# Altium footprint library fszhang.PcbLib: 298 footprints (part 2 of 19)
Each footprint in its own frame and in the unit in brackets; x right, y up, seen from the top. Pads: shape width x height; smd on the part's side, far side on the other; paste and mask are expansions set on the pad; w line width, h text height; cw(c..) or ccw(c..) is an arc to the next point about the centre after c.
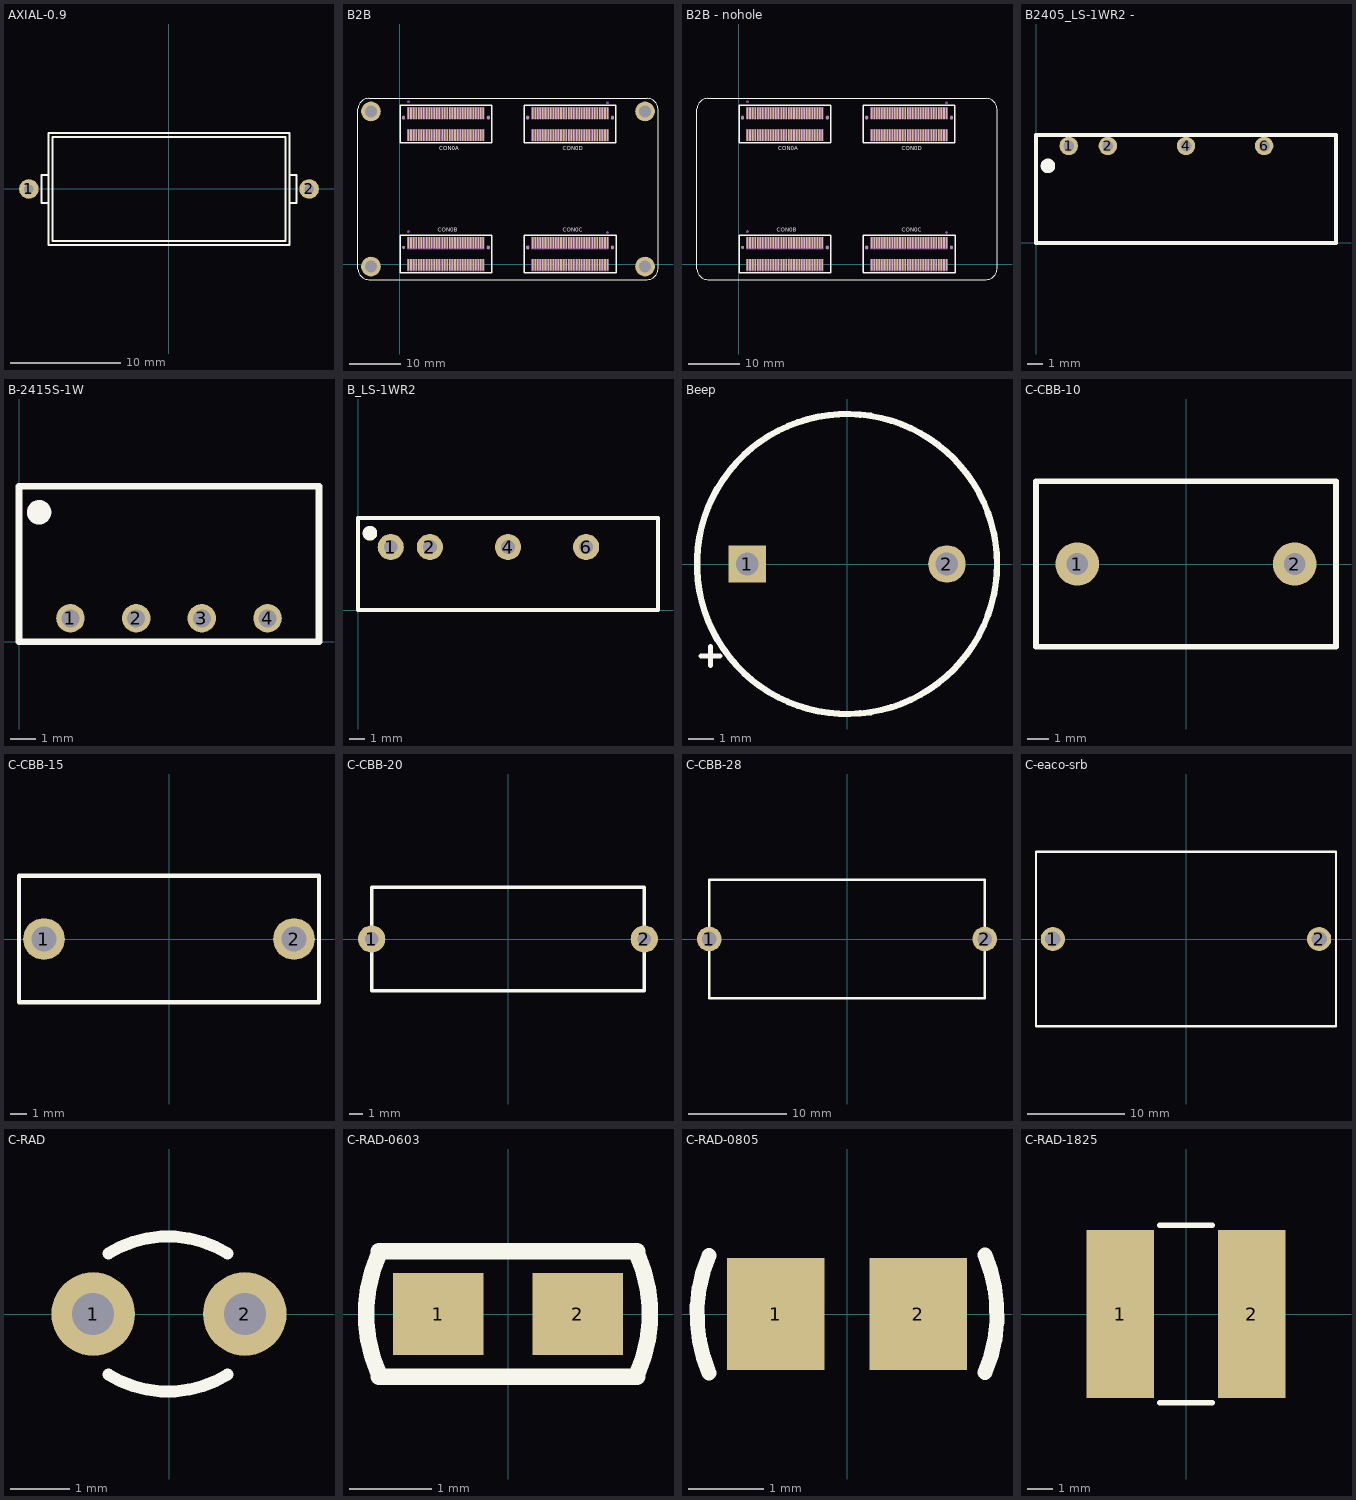
[diagram p1: the footprints below, top view; thin cyan lines are the x and y axes]

## AXIAL-0.9 [mil] "插件电阻"
height 100
pads (2):
  round 70 hole 33.46: 1(-500,0) 2(500,0)
Top Overlay:
  lines w7.87: -430,-50 -455,-50 -455,50 -430,50 ; 430,-50 455,-50 455,50 430,50 ; -430,-200 -430,200 430,200 430,-200 -430,-200 ; -415,-185 -415,185 415,185 415,-185 -415,-185

## B2B [mm]
pads (252):
  round 3.81 / inner round 1.524 / far side round 3.81 hole 2.286: " "(-5.538,29.55) " "(47.462,-0.45) ""(-5.538,-0.45) ""(47.462,29.55)
  round 0.549 / inner round 1.524 / far side round 0.549 hole 0.549: " "(0.762,3.25) " "(0.762,28.35) " "(17.162,3.25) " "(17.162,28.35) " "(24.762,3.25) " "(24.762,28.35) " "(41.162,3.25) " "(41.162,28.35)
  rect 0.3x2.25 smd: A1(1.712,29.224) A2(1.712,24.976) A3(2.212,29.224) A4(2.212,24.976) A5(2.712,29.224) A6(2.712,24.976) A7(3.212,29.224) A8(3.212,24.976) A9(3.712,29.224) A10(3.712,24.976) A11(4.212,29.224) A12(4.212,24.976) A13(4.712,29.224) A14(4.712,24.976) A15(5.212,29.224) A16(5.212,24.976) A17(5.712,29.224) A18(5.712,24.976) A19(6.212,29.224) A20(6.212,24.976) A21(6.712,29.224) A22(6.712,24.976) A23(7.212,29.224) A24(7.212,24.976) A25(7.712,29.224) A26(7.712,24.976) A27(8.212,29.224) A28(8.212,24.976) A29(8.712,29.224) A30(8.712,24.976) A31(9.212,29.224) A32(9.212,24.976) A33(9.712,29.224) A34(9.712,24.976) A35(10.212,29.224) A36(10.212,24.976) A37(10.712,29.224) A38(10.712,24.976) A39(11.212,29.224) A40(11.212,24.976) A41(11.712,29.224) A42(11.712,24.976) A43(12.212,29.224) A44(12.212,24.976) A45(12.712,29.224) A46(12.712,24.976) A47(13.212,29.224) A48(13.212,24.976) A49(13.712,29.224) A50(13.712,24.976) A51(14.212,29.224) A52(14.212,24.976) A53(14.712,29.224) A54(14.712,24.976) A55(15.212,29.224) A56(15.212,24.976) A57(15.712,29.224) A58(15.712,24.976) A59(16.212,29.224) A60(16.212,24.976) B1(1.712,4.124) B2(1.712,-0.124) B3(2.212,4.124) B4(2.212,-0.124) B5(2.712,4.124) B6(2.712,-0.124) B7(3.212,4.124) B8(3.212,-0.124) B9(3.712,4.124) B10(3.712,-0.124) B11(4.212,4.124) B12(4.212,-0.124) B13(4.712,4.124) B14(4.712,-0.124) B15(5.212,4.124) B16(5.212,-0.124) B17(5.712,4.124) B18(5.712,-0.124) B19(6.212,4.124) B20(6.212,-0.124) B21(6.712,4.124) B22(6.712,-0.124) B23(7.212,4.124) B24(7.212,-0.124) B25(7.712,4.124) B26(7.712,-0.124) B27(8.212,4.124) B28(8.212,-0.124) B29(8.712,4.124) B30(8.712,-0.124) B31(9.212,4.124) B32(9.212,-0.124) B33(9.712,4.124) B34(9.712,-0.124) B35(10.212,4.124) B36(10.212,-0.124) B37(10.712,4.124) B38(10.712,-0.124) B39(11.212,4.124) B40(11.212,-0.124) B41(11.712,4.124) B42(11.712,-0.124) B43(12.212,4.124) B44(12.212,-0.124) B45(12.712,4.124) B46(12.712,-0.124) B47(13.212,4.124) B48(13.212,-0.124) B49(13.712,4.124) B50(13.712,-0.124) B51(14.212,4.124) B52(14.212,-0.124) B53(14.712,4.124) B54(14.712,-0.124) B55(15.212,4.124) B56(15.212,-0.124) B57(15.712,4.124) B58(15.712,-0.124) B59(16.212,4.124) B60(16.212,-0.124) C1(40.212,4.124) C2(40.212,-0.124) C3(39.712,4.124) C4(39.712,-0.124) C5(39.212,4.124) C6(39.212,-0.124) C7(38.712,4.124) C8(38.712,-0.124) C9(38.212,4.124) C10(38.212,-0.124) C11(37.712,4.124) C12(37.712,-0.124) C13(37.212,4.124) C14(37.212,-0.124) C15(36.712,4.124) C16(36.712,-0.124) C17(36.212,4.124) C18(36.212,-0.124) C19(35.712,4.124) C20(35.712,-0.124) C21(35.212,4.124) C22(35.212,-0.124) C23(34.712,4.124) C24(34.712,-0.124) C25(34.212,4.124) C26(34.212,-0.124) C27(33.712,4.124) C28(33.712,-0.124) C29(33.212,4.124) C30(33.212,-0.124) C31(32.712,4.124) C32(32.712,-0.124) C33(32.212,4.124) C34(32.212,-0.124) C35(31.712,4.124) C36(31.712,-0.124) C37(31.212,4.124) C38(31.212,-0.124) C39(30.712,4.124) C40(30.712,-0.124) C41(30.212,4.124) C42(30.212,-0.124) C43(29.712,4.124) C44(29.712,-0.124) C45(29.212,4.124) C46(29.212,-0.124) C47(28.712,4.124) C48(28.712,-0.124) C49(28.212,4.124) C50(28.212,-0.124) C51(27.712,4.124) C52(27.712,-0.124) C53(27.212,4.124) C54(27.212,-0.124) C55(26.712,4.124) C56(26.712,-0.124) C57(26.212,4.124) C58(26.212,-0.124) C59(25.712,4.124) C60(25.712,-0.124) D1(40.212,29.224) D2(40.212,24.976) D3(39.712,29.224) D4(39.712,24.976) D5(39.212,29.224) D6(39.212,24.976) D7(38.712,29.224) D8(38.712,24.976) D9(38.212,29.224) D10(38.212,24.976) D11(37.712,29.224) D12(37.712,24.976) D13(37.212,29.224) D14(37.212,24.976) D15(36.712,29.224) D16(36.712,24.976) D17(36.212,29.224) D18(36.212,24.976) D19(35.712,29.224) D20(35.712,24.976) D21(35.212,29.224) D22(35.212,24.976) D23(34.712,29.224) D24(34.712,24.976) D25(34.212,29.224) D26(34.212,24.976) D27(33.712,29.224) D28(33.712,24.976) D29(33.212,29.224) D30(33.212,24.976) D31(32.712,29.224) D32(32.712,24.976) D33(32.212,29.224) D34(32.212,24.976) D35(31.712,29.224) D36(31.712,24.976) D37(31.212,29.224) D38(31.212,24.976) D39(30.712,29.224) D40(30.712,24.976) D41(30.212,29.224) D42(30.212,24.976) D43(29.712,29.224) D44(29.712,24.976) D45(29.212,29.224) D46(29.212,24.976) D47(28.712,29.224) D48(28.712,24.976) D49(28.212,29.224) D50(28.212,24.976) D51(27.712,29.224) D52(27.712,24.976) D53(27.212,29.224) D54(27.212,24.976) D55(26.712,29.224) D56(26.712,24.976) D57(26.212,29.224) D58(26.212,24.976) D59(25.712,29.224) D60(25.712,24.976)
Top Overlay:
  lines w0.025: -8.038,-0.918 ccw(c-6.006,-0.918) -6.006,-2.95 47.93,-2.95 ccw(c47.93,-0.918) 49.962,-0.918 49.962,30.018 ccw(c47.93,30.018) 47.93,32.05 -6.006,32.05 ccw(c-6.006,30.018) -8.038,30.018 -8.038,0.267 -8.038,-0.918
  lines w0.152: -8.038,-0.918 ccw(c-6.006,-0.918) -6.006,-2.95 47.93,-2.95 ccw(c47.93,-0.918) 49.962,-0.918 49.962,30.018 ccw(c47.93,30.018) 47.93,32.05 -6.006,32.05 ccw(c-6.006,30.018) -8.038,30.018 -8.038,0.267 -8.038,-0.918
  lines w0.254: 0.1,-1.6 17.8,-1.6 17.8,5.6 0.1,5.6 0.1,-1.6 ; 0.1,23.5 0.1,30.7 17.8,30.7 17.8,23.5 0.1,23.5 ; 24.1,-1.6 41.9,-1.6 41.9,5.6 24.1,5.6 24.1,-1.6 ; 24.1,23.5 41.8,23.5 41.8,30.7 24.1,30.7 24.1,23.5
  text "CON0D" at 31.503,22.013 h0.76
  text "CON0C" at 31.503,6.298 h0.76
  text "CON0A" at 7.627,22.013 h0.76
  text "CON0B" at 7.373,6.298 h0.76
Mechanical 8:
Mechanical 14:
  drawing of 954 lines, arcs and shapes, not listed

## B2B - nohole [mm]
pads (248):
  round 0.549 / inner round 1.524 / far side round 0.549 hole 0.549: " "(0.762,3.25) " "(0.762,28.35) " "(17.162,3.25) " "(17.162,28.35) " "(24.762,3.25) " "(24.762,28.35) " "(41.162,3.25) " "(41.162,28.35)
  rect 0.3x2.25 smd: A1(1.712,29.224) A2(1.712,24.976) A3(2.212,29.224) A4(2.212,24.976) A5(2.712,29.224) A6(2.712,24.976) A7(3.212,29.224) A8(3.212,24.976) A9(3.712,29.224) A10(3.712,24.976) A11(4.212,29.224) A12(4.212,24.976) A13(4.712,29.224) A14(4.712,24.976) A15(5.212,29.224) A16(5.212,24.976) A17(5.712,29.224) A18(5.712,24.976) A19(6.212,29.224) A20(6.212,24.976) A21(6.712,29.224) A22(6.712,24.976) A23(7.212,29.224) A24(7.212,24.976) A25(7.712,29.224) A26(7.712,24.976) A27(8.212,29.224) A28(8.212,24.976) A29(8.712,29.224) A30(8.712,24.976) A31(9.212,29.224) A32(9.212,24.976) A33(9.712,29.224) A34(9.712,24.976) A35(10.212,29.224) A36(10.212,24.976) A37(10.712,29.224) A38(10.712,24.976) A39(11.212,29.224) A40(11.212,24.976) A41(11.712,29.224) A42(11.712,24.976) A43(12.212,29.224) A44(12.212,24.976) A45(12.712,29.224) A46(12.712,24.976) A47(13.212,29.224) A48(13.212,24.976) A49(13.712,29.224) A50(13.712,24.976) A51(14.212,29.224) A52(14.212,24.976) A53(14.712,29.224) A54(14.712,24.976) A55(15.212,29.224) A56(15.212,24.976) A57(15.712,29.224) A58(15.712,24.976) A59(16.212,29.224) A60(16.212,24.976) B1(1.712,4.124) B2(1.712,-0.124) B3(2.212,4.124) B4(2.212,-0.124) B5(2.712,4.124) B6(2.712,-0.124) B7(3.212,4.124) B8(3.212,-0.124) B9(3.712,4.124) B10(3.712,-0.124) B11(4.212,4.124) B12(4.212,-0.124) B13(4.712,4.124) B14(4.712,-0.124) B15(5.212,4.124) B16(5.212,-0.124) B17(5.712,4.124) B18(5.712,-0.124) B19(6.212,4.124) B20(6.212,-0.124) B21(6.712,4.124) B22(6.712,-0.124) B23(7.212,4.124) B24(7.212,-0.124) B25(7.712,4.124) B26(7.712,-0.124) B27(8.212,4.124) B28(8.212,-0.124) B29(8.712,4.124) B30(8.712,-0.124) B31(9.212,4.124) B32(9.212,-0.124) B33(9.712,4.124) B34(9.712,-0.124) B35(10.212,4.124) B36(10.212,-0.124) B37(10.712,4.124) B38(10.712,-0.124) B39(11.212,4.124) B40(11.212,-0.124) B41(11.712,4.124) B42(11.712,-0.124) B43(12.212,4.124) B44(12.212,-0.124) B45(12.712,4.124) B46(12.712,-0.124) B47(13.212,4.124) B48(13.212,-0.124) B49(13.712,4.124) B50(13.712,-0.124) B51(14.212,4.124) B52(14.212,-0.124) B53(14.712,4.124) B54(14.712,-0.124) B55(15.212,4.124) B56(15.212,-0.124) B57(15.712,4.124) B58(15.712,-0.124) B59(16.212,4.124) B60(16.212,-0.124) C1(40.212,4.124) C2(40.212,-0.124) C3(39.712,4.124) C4(39.712,-0.124) C5(39.212,4.124) C6(39.212,-0.124) C7(38.712,4.124) C8(38.712,-0.124) C9(38.212,4.124) C10(38.212,-0.124) C11(37.712,4.124) C12(37.712,-0.124) C13(37.212,4.124) C14(37.212,-0.124) C15(36.712,4.124) C16(36.712,-0.124) C17(36.212,4.124) C18(36.212,-0.124) C19(35.712,4.124) C20(35.712,-0.124) C21(35.212,4.124) C22(35.212,-0.124) C23(34.712,4.124) C24(34.712,-0.124) C25(34.212,4.124) C26(34.212,-0.124) C27(33.712,4.124) C28(33.712,-0.124) C29(33.212,4.124) C30(33.212,-0.124) C31(32.712,4.124) C32(32.712,-0.124) C33(32.212,4.124) C34(32.212,-0.124) C35(31.712,4.124) C36(31.712,-0.124) C37(31.212,4.124) C38(31.212,-0.124) C39(30.712,4.124) C40(30.712,-0.124) C41(30.212,4.124) C42(30.212,-0.124) C43(29.712,4.124) C44(29.712,-0.124) C45(29.212,4.124) C46(29.212,-0.124) C47(28.712,4.124) C48(28.712,-0.124) C49(28.212,4.124) C50(28.212,-0.124) C51(27.712,4.124) C52(27.712,-0.124) C53(27.212,4.124) C54(27.212,-0.124) C55(26.712,4.124) C56(26.712,-0.124) C57(26.212,4.124) C58(26.212,-0.124) C59(25.712,4.124) C60(25.712,-0.124) D1(40.212,29.224) D2(40.212,24.976) D3(39.712,29.224) D4(39.712,24.976) D5(39.212,29.224) D6(39.212,24.976) D7(38.712,29.224) D8(38.712,24.976) D9(38.212,29.224) D10(38.212,24.976) D11(37.712,29.224) D12(37.712,24.976) D13(37.212,29.224) D14(37.212,24.976) D15(36.712,29.224) D16(36.712,24.976) D17(36.212,29.224) D18(36.212,24.976) D19(35.712,29.224) D20(35.712,24.976) D21(35.212,29.224) D22(35.212,24.976) D23(34.712,29.224) D24(34.712,24.976) D25(34.212,29.224) D26(34.212,24.976) D27(33.712,29.224) D28(33.712,24.976) D29(33.212,29.224) D30(33.212,24.976) D31(32.712,29.224) D32(32.712,24.976) D33(32.212,29.224) D34(32.212,24.976) D35(31.712,29.224) D36(31.712,24.976) D37(31.212,29.224) D38(31.212,24.976) D39(30.712,29.224) D40(30.712,24.976) D41(30.212,29.224) D42(30.212,24.976) D43(29.712,29.224) D44(29.712,24.976) D45(29.212,29.224) D46(29.212,24.976) D47(28.712,29.224) D48(28.712,24.976) D49(28.212,29.224) D50(28.212,24.976) D51(27.712,29.224) D52(27.712,24.976) D53(27.212,29.224) D54(27.212,24.976) D55(26.712,29.224) D56(26.712,24.976) D57(26.212,29.224) D58(26.212,24.976) D59(25.712,29.224) D60(25.712,24.976)
Top Overlay:
  lines w0.025: -8.038,-0.918 ccw(c-6.006,-0.918) -6.006,-2.95 47.93,-2.95 ccw(c47.93,-0.918) 49.962,-0.918 49.962,30.018 ccw(c47.93,30.018) 47.93,32.05 -6.006,32.05 ccw(c-6.006,30.018) -8.038,30.018 -8.038,0.267 -8.038,-0.918
  lines w0.152: -8.038,-0.918 ccw(c-6.006,-0.918) -6.006,-2.95 47.93,-2.95 ccw(c47.93,-0.918) 49.962,-0.918 49.962,30.018 ccw(c47.93,30.018) 47.93,32.05 -6.006,32.05 ccw(c-6.006,30.018) -8.038,30.018 -8.038,0.267 -8.038,-0.918
  lines w0.254: 0.1,-1.6 0.1,5.6 17.8,5.6 17.8,-1.6 0.1,-1.6 ; 0.1,23.5 17.8,23.5 17.8,30.7 0.1,30.7 0.1,23.5 ; 24.1,-1.6 24.1,5.6 41.9,5.6 41.9,-1.6 24.1,-1.6 ; 24.1,23.5 24.1,30.7 41.8,30.7 41.8,23.5 24.1,23.5
  text "CON0B" at 7.373,6.298 h0.76
  text "CON0A" at 7.627,22.013 h0.76
  text "CON0C" at 31.503,6.298 h0.76
  text "CON0D" at 31.503,22.013 h0.76
Mechanical 8:
Mechanical 14:
  drawing of 954 lines, arcs and shapes, not listed

## B2405_LS-1WR2 - [mm]
pads (4):
  round 1.2 hole 0.7: 1(2.13,6.3) 2(4.67,6.3) 4(9.75,6.3) 6(14.83,6.3)
Top Overlay:
  circle w0.5: c0.776,5 r0.224
  lines w0.254: 0,0 19.5,0 19.5,7 0,7 0,0

## B-2415S-1W [mm]
pads (4):
  round 1.1 hole 0.7: 1(1.99,0.9) 2(4.53,0.9) 3(7.07,0.9) 4(9.61,0.9)
Top Overlay:
  circle w0.5: c0.776,5 r0.224
  lines w0.254: 0,0 11.6,0 11.6,6 0,6 0,0

## B_LS-1WR2 [mm]
pads (4):
  round 1.7 hole 0.9: 1(2.13,4.1) 2(4.67,4.1) 4(9.75,4.1) 6(14.83,4.1)
Top Overlay:
  circle w0.5: c0.776,5 r0.224
  lines w0.254: 0,0 19.5,0 19.5,6 0,6 0,0

## Beep [mm] "蜂鸣器"
height 6
pads (2):
  rect 1.5x1.5 hole 0.9: 1(-4,0)
  round 1.5 hole 0.9: 2(4,0)
Top Overlay:
  circle w0.254: c0,0 r6
  lines w0.2: -5.842,-3.683 -5.08,-3.683 ; -5.461,-4.064 -5.461,-3.302

## C-CBB-10 [mm]
pads (2):
  round 2 hole 1: 1(-5,0) 2(5,0)
Top Overlay:
  lines w0.254: -6.9,-3.8 6.9,-3.8 6.9,3.8 -6.9,3.8 -6.9,-3.8

## C-CBB-15 [mm]
pads (2):
  round 2.5 hole 1.5: 1(-7.5,0) 2(7.5,0)
Top Overlay:
  lines w0.254: -9,-3.8 -9,3.8 9,3.8 9,-3.8 -9,-3.8

## C-CBB-20 [mm]
pads (2):
  round 2 hole 1: 1(-10,0) 2(10,0)
Top Overlay:
  lines w0.254: -10,-3.8 -10,3.8 10,3.8 10,-3.8 -10,-3.8

## C-CBB-28 [mm]
pads (2):
  round 2.5 hole 1.5: 1(-14,0) 2(14,0)
Top Overlay:
  lines w0.254: -14,-6 -14,6 14,6 14,-6 -14,-6

## C-eaco-srb [mm]
pads (2):
  round 2.5 hole 1.6: 1(-13.75,0) 2(13.75,0)
Top Overlay:
  lines w0.254: -15.5,-9 -15.5,9 15.5,9 15.5,-9 -15.5,-9

## C-RAD [mm] "瓷片电容"
height 6
pads (2):
  round 1.4 hole 0.7: 1(-1.27,0) 2(1.27,0)
Top Overlay:
  lines w0.2: -1.016,-1.016 ccw(c-0.018,0.606) 0.981,-1.016 ; -1.016,1.016 cw(c-0.018,-0.606) 0.981,1.016

## C-RAD-0603 [mm] "贴片电容"
height 0.6
pads (2):
  rect 1.1x1 smd: 1(-0.85,0) 2(0.85,0)
Top Overlay:
  lines w0.2: -1.574,-0.762 1.574,-0.762 ; -1.574,-0.727 cw(c0.048,0) -1.574,0.727 ; -1.574,0.762 1.574,0.762 ; 1.574,-0.727 ccw(c-0.048,0) 1.574,0.727
3D body: height 1, standoff 0, extent -1.143,-0.381 1.143,0.381

## C-RAD-0805 [mm] "贴片电容"
height 1
pads (2):
  rect 1.3x1.5 smd: 1(-0.95,0) 2(0.95,0)
Top Overlay:
  lines w0.2: -1.842,0.779 ccw(c0,0) -1.838,-0.789 ; 1.838,0.789 cw(c0,0) 1.842,-0.779
3D body: height 0.8, standoff 0, extent -1.016,-0.635 1.016,0.635
3D body: height 0.9, standoff 0, extent -1.27,-0.635 -0.889,0.635
3D body: height 0.9, standoff 0, extent 0.889,-0.635 1.27,0.635

## C-RAD-1825 [mm] "贴片电阻"
pads (2):
  rect 2.6x6.5 smd: 1(-2.54,0) 2(2.54,0)
Top Overlay:
  lines w0.2: -1.016,-3.429 1.016,-3.429 ; -1.016,3.429 1.016,3.429
3D body: height 1.2, standoff 0, extent -2.286,-3.175 2.286,3.175